# Altium footprint library uMote.PcbLib: 22 footprints (part 2 of 2)
Each footprint in its own frame and in the unit in brackets; x right, y up, seen from the top. Pads: shape width x height; smd on the part's side, far side on the other; paste and mask are expansions set on the pad; w line width, h text height; cw(c..) or ccw(c..) is an arc to the next point about the centre after c.
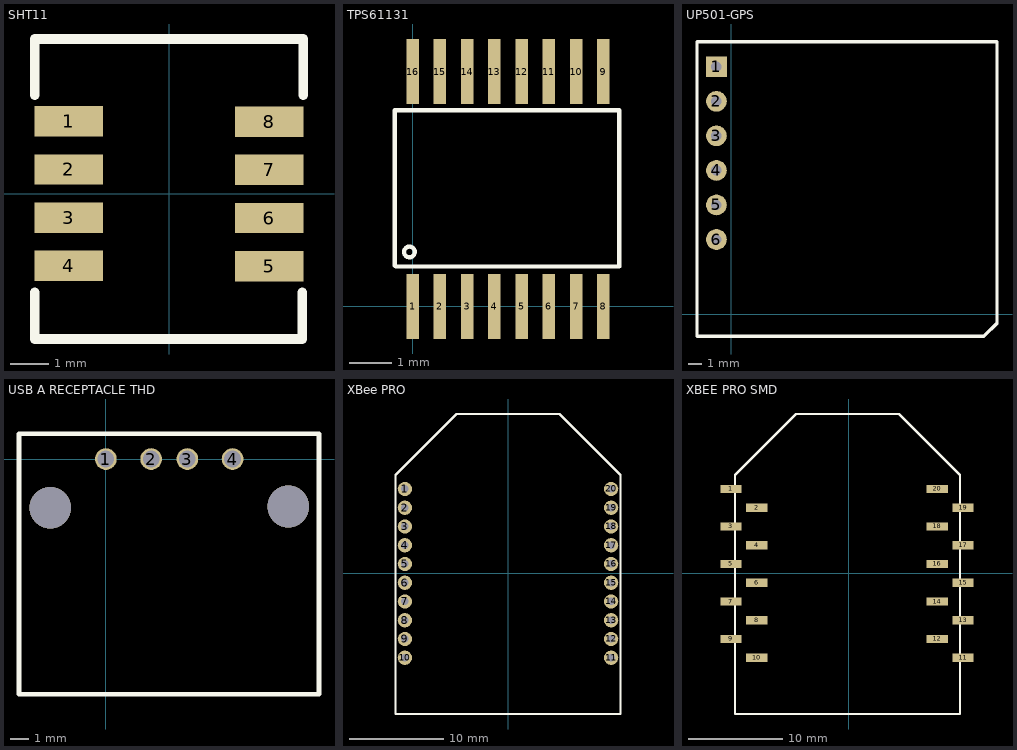
[diagram p1: the footprints below, top view; thin cyan lines are the x and y axes]

## SHT11 [mm]
pads (8):
  rect 1.8x0.8 smd: 1(-2.638,1.91) 2(-2.638,0.64) 3(-2.638,-0.63) 4(-2.638,-1.9) 5(2.638,-1.91) 6(2.638,-0.64) 7(2.638,0.63) 8(2.638,1.9)
Top Overlay:
  lines w0.254: -3.538,-2.6 -3.538,-3.825 3.512,-3.825 3.512,-2.6 ; -3.538,2.6 -3.538,4.075 3.537,4.075 3.537,2.6

## TPS61131 [mm]
pads (16):
  rect 0.3x1.55 smd: 1(0,0) 2(0.65,0) 3(1.3,0) 4(1.95,0) 5(2.6,0) 6(3.25,0) 7(3.9,0) 8(4.55,0) 9(4.55,5.6) 10(3.9,5.6) 11(3.25,5.6) 12(2.6,5.6) 13(1.95,5.6) 14(1.3,5.6) 15(0.65,5.6) 16(0,5.6)
Top Overlay:
  circle w0.1: c-0.075,1.3 r0.127
  lines w0.1: -0.425,0.975 -0.4,0.95 4.925,0.95 4.925,4.675 -0.425,4.675 -0.425,0.975

## UP501-GPS [mil]
pads (6):
  rect 60x60 hole 30: 1(-43.31,716.54)
  round 60 hole 30: 2(-43.31,616.54) 3(-43.31,516.54) 4(-43.31,416.54) 5(-43.31,316.54) 6(-43.31,216.54)
Top Overlay:
  lines w10: -99.41,-63.98 730.31,-63.98 768.7,-25.59 768.7,789.37 -99.41,789.37 -99.41,-63.98
3D body: height 393.7, standoff 0, extent -70.64,689.04 -15.74,744.05

## USB A RECEPTACLE THD [mm]
pads (4):
  round 1.2 hole 0.92: 1(0,0) 2(2.5,0) 3(4.5,0) 4(7,0)
via -3.075,-2.7 diameter 2.3 hole 2.3
via 10.075,-2.625 diameter 2.3 hole 2.3
Top Overlay:
  lines w0.254: -4.8,-13 -4.8,0 -4.8,1.4 11.775,1.4 11.775,0 11.775,-13 -4.8,-13

## XBee PRO [mm]
pads (20):
  round 1.524 hole 0.8: 1(-11,9) 2(-11,7) 3(-11,5) 4(-11,3) 5(-11,1) 6(-11,-1) 7(-11,-3) 8(-11,-5) 9(-11,-7) 10(-11,-9) 11(11,-9) 12(11,-7) 13(11,-5) 14(11,-3) 15(11,-1) 16(11,1) 17(11,3) 18(11,5) 19(11,7) 20(11,9)
Top Overlay:
  lines w0.254: -12,-15 -12,9.5 -12,10 -12,10.5 -5.5,17 5.5,17 12,10.5 12,10 12,9.5 12,-15 -12,-15
3D body: height 10, standoff 5, extent -12,-15.075 12,17

## XBEE PRO SMD [mm]
pads (20):
  rect 2.29x0.9 smd: 1(-12.537,9) 2(-9.787,7) 3(-12.537,5) 4(-9.787,3) 5(-12.537,1) 6(-9.787,-1) 7(-12.537,-3) 8(-9.787,-5) 9(-12.537,-7) 10(-9.787,-9) 11(12.213,-9) 12(9.463,-7) 13(12.213,-5) 14(9.463,-3) 15(12.213,-1) 16(9.463,1) 17(12.213,3) 18(9.463,5) 19(12.213,7) 20(9.463,9)
Top Overlay:
  lines w0.254: -12.113,-15 -12.113,9.5 -12.113,10 -12.113,10.5 -5.613,17 5.388,17 11.887,10.5 11.887,10 11.887,9.5 11.887,-15 -12.113,-15
3D body: height 5, standoff 2, extent -12.125,-14.975 11.9,17